# Altium schematic symbol library ECE453.SchLib: 2 symbols
Pins are listed as number, name and electrical type; pins without a type are passive.

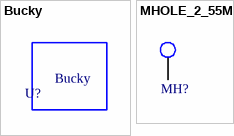
[diagram p0: symbols Bucky to MHOLE_2_55MM]

## Bucky
designator U?  (value not drawn)
Bucky Badger Image; Manufacturer Part Number: UW Bucky
footprint WalkingBucky

## MHOLE_2_55MM
designator MH?  (value not drawn)  (no BOM)
Mounting Holde; Manufacturer Part Number: UW MTHOLE
footprint MHOLE_2_55MM
pins: 1